# Altium integrated library 10103592-0001LF.IntLib: 1 symbol
Pins are listed as number, name and electrical type; pins without a type are passive.

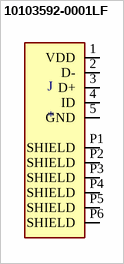
[diagram p0: symbol 10103592-0001LF]

## 10103592-0001LF
designator J
USB - micro B USB 2.0 Receptacle Connector 5 Position Surface Mount, Right Angle; Through Hole; MF: Amphenol ICC; MP: 10103592-0001LF; SnapEDA_Link: https://www.snapeda.com/parts/10103592-0001LF/Amphenol%20FCI/view-part/1274744/?ref=snap; Availability: Unavailable; Value: *; Price: None; Package: None
footprint AMPHENOL_10103592-0001LF
pins: 1 VDD (power), 2 D- (io), 3 D+ (io), 4 ID (io), 5 GND (power), P1 SHIELD (power), P2 SHIELD (power), P3 SHIELD (power), P4 SHIELD (power), P5 SHIELD (power), P6 SHIELD (power)